# EAGLE library part MC1.5/12 (library jt-con-phoenix-3.81)
PHOENIX
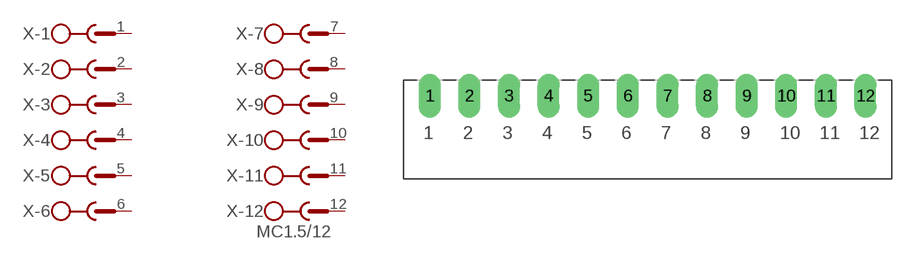
[diagram p1: symbol with the pads of MC1.5/12-G-3.81; footprint MC1.5/12-G-3.81]

Designator prefix X; gates -1=SK -2=SK -3=SK -4=SK -5=SK -6=SK -7=SK -8=SK -9=SK -10=SK -11=SK -12=SKV

## MC1.5/12  [MC1.5/12-G-3.81]
1  -1:1  pas
2  -2:1  pas
3  -3:1  pas
4  -4:1  pas
5  -5:1  pas
6  -6:1  pas
7  -7:1  pas
8  -8:1  pas
9  -9:1  pas
10  -10:1  pas
11  -11:1  pas
12  -12:1  pas

## Footprint MC1.5/12-G-3.81 (pad centres in mm)
PHOENIX
drill 1.397 long: 1 -20.955,8; 2 -17.145,8; 3 -13.335,8; 4 -9.525,8; 5 -5.715,8; 6 -1.905,8; 7 1.905,8; 8 5.715,8; 9 9.525,8; 10 13.335,8; 11 17.145,8; 12 20.955,8